# Altium schematic symbol library MEC.SchLib: 1 symbol
Pins are listed as number, name and electrical type; pins without a type are passive.

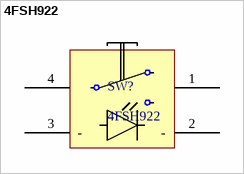
[diagram p0: symbol 4FSH922]

## 4FSH922
designator SW?
Switch with LED
footprint 4FSH922
pins: 1, 2 -, 3 -, 4